# Altium integrated library TI_Logic_Specialty_Logic.IntLib: 2504 symbols (part 69 of 81)
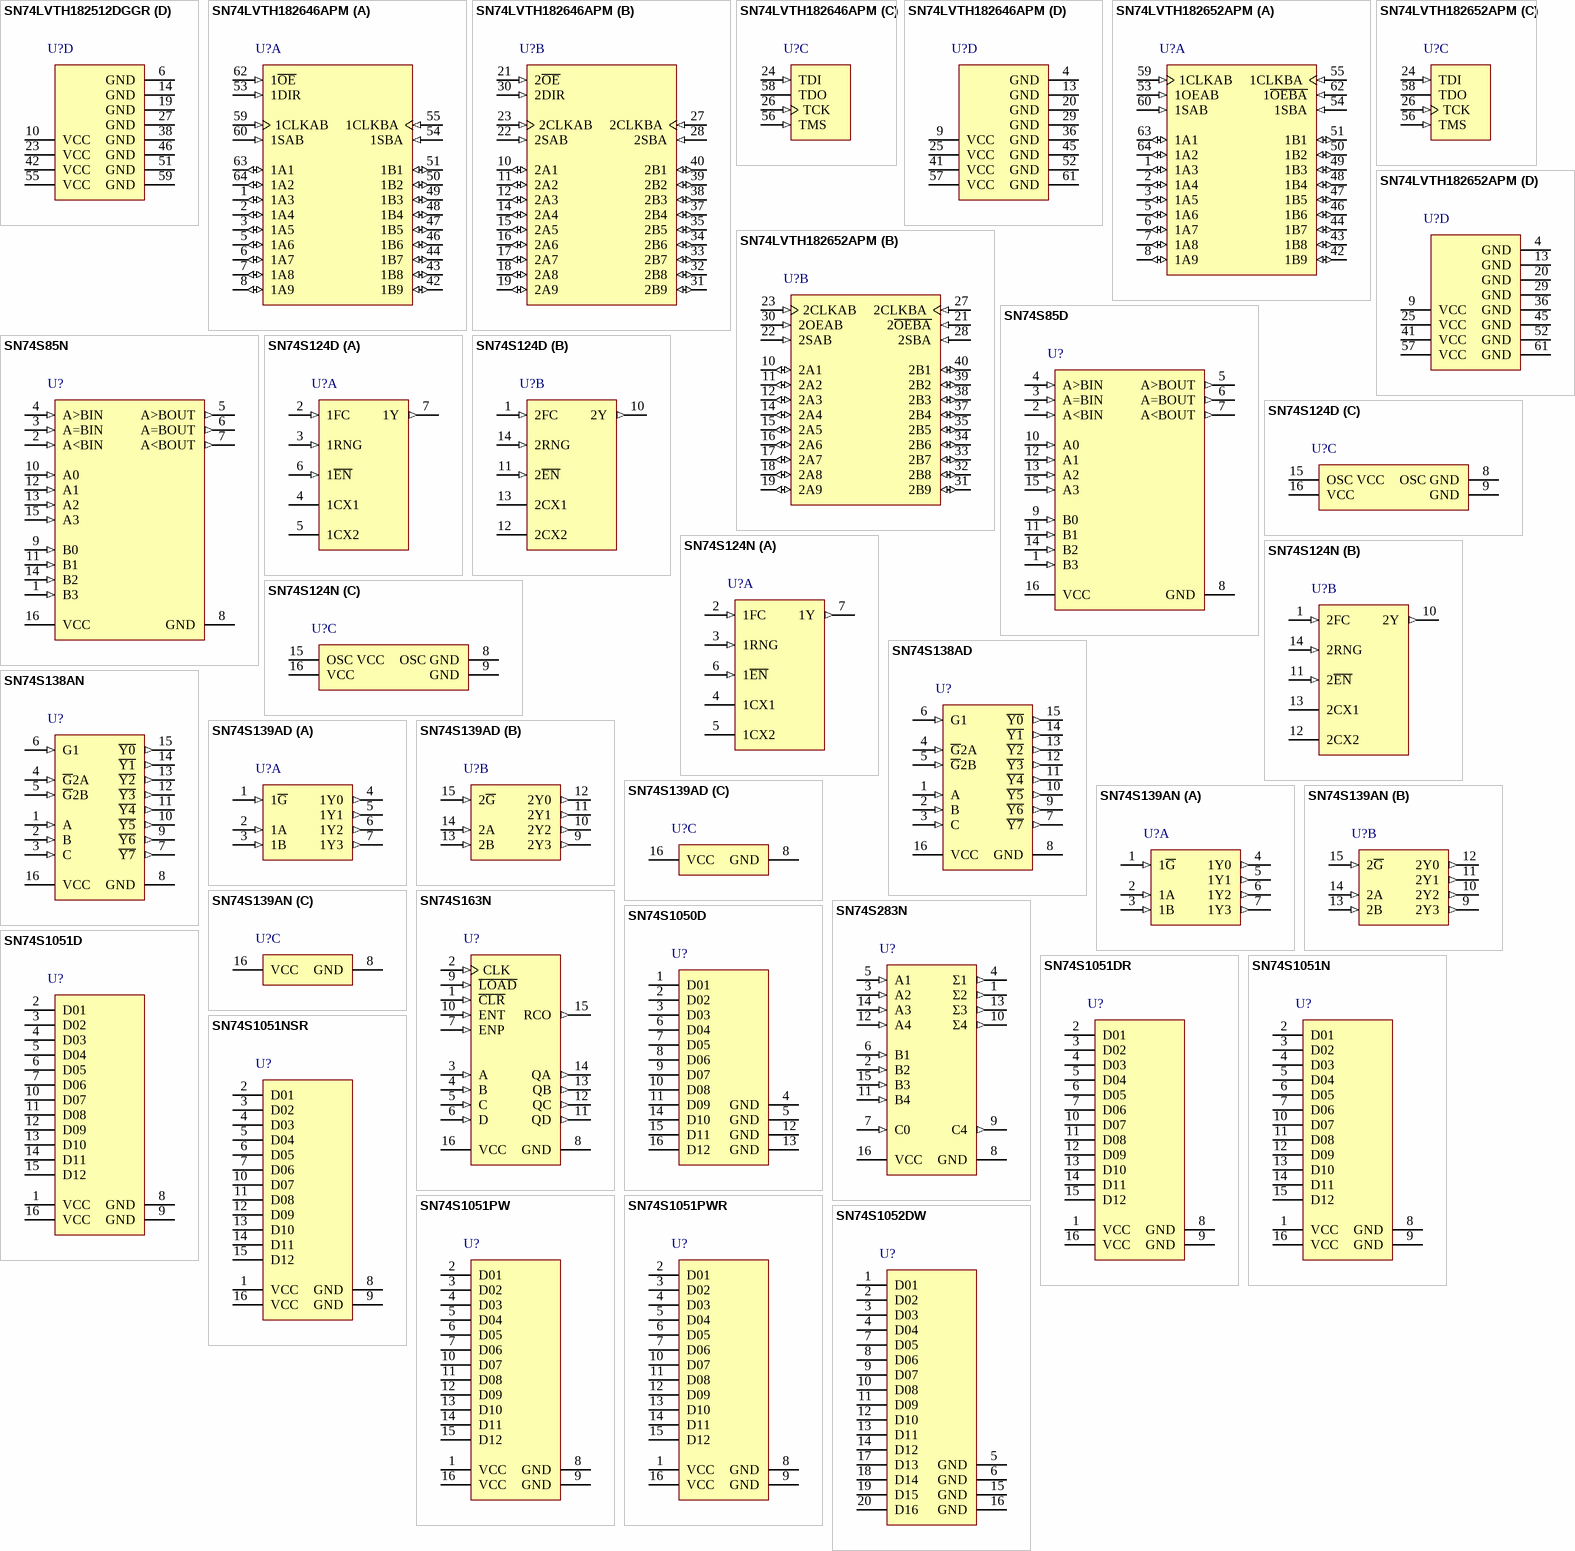
[diagram p172: symbols SN74LVTH182512DGGR to SN74S1052DW]

## SN74S1051PWR
designator U?
12-Bit Schottky Barrier Diode Bus-Termination Array, PW0016A, LARGE T&R; Generic Part Number: SN74S1051; Manufacturer: Texas Instruments; PartNumber: SN74S1051PWR; VCC(Min)(V): 4.75; VCC(Max)(V): 5.25; Output Type: TTL; Vf(Max)(V): 1.3; Bits(#): 12; F @ Nom Voltage(Max)(Mhz): 50; Technology Family: S; Voltage(Nom)(V): 5; tpd @ Nom Voltage(Max)(ns): 16; DatasheetVersion: SDLS018B; PackageReference: PW0016A; Supplier 1: Mouser; Supplier Part Number 1: 595-SN74S1051PWR; Supplier 2: Digi-Key; Supplier Part Number 2: 296-37430-2-ND; Supplier 3: Digi-Key; Supplier Part Number 3: 296-37430-1-ND; Supplier 4: Digi-Key; Supplier Part Number 4: 296-37430-6-ND; Input Type: TTL; Operating Temperature Range(C): 0 to 70; Code_JEDEC: MO-153; ComponentLink1Description: Manufacturer URL; ComponentLink1URL: http://www.ti.com/; ComponentLink2Description: Datasheet; ComponentLink2URL: http://www.ti.com/lit/ds/symlink/sn74s1051.pdf; ComponentLink3Description: Package Specification; ComponentLink3URL: http://www.ti.com/lit/ml/mpds361/mpds361.pdf
footprint PW0016A_N (SOP, 16-Leads, Body 5.1x4.5mm, Pitch 0.65mm, IPC Medium Density)
footprint PW0016A_M (SOP, 16-Leads, Body 5.1x4.5mm, Pitch 0.65mm, IPC Low Density)
footprint PW0016A_L (SOP, 16-Leads, Body 5.1x4.5mm, Pitch 0.65mm, IPC High Density)
pins: 1 VCC, 2 D01, 3 D02, 4 D03, 5 D04, 6 D05, 7 D06, 8 GND, 9 GND, 10 D07, 11 D08, 12 D09, 13 D10, 14 D11, 15 D12, 16 VCC

## SN74S1052DW
designator U?
16-Bit Schottky Barrier Diode Bus-Termination Array, DW0020A, TUBE; Generic Part Number: SN74S1052; Manufacturer: Texas Instruments; PartNumber: SN74S1052DW; VCC(Min)(V): 4.75; VCC(Max)(V): 5.25; Output Type: TTL; Vf(Max)(V): 1.2; Bits(#): 16; F @ Nom Voltage(Max)(Mhz): 50; Technology Family: S; Voltage(Nom)(V): 5; DatasheetVersion: SDLS016A; PackageReference: DW0020A; Supplier 1: Mouser; Supplier Part Number 1: 595-SN74S1052DW; Supplier 2: Digi-Key; Supplier Part Number 2: SN74S1052DW-ND; Input Type: TTL; Operating Temperature Range(C): 0 to 70; tpd @ Nom Voltage(Max)(ns): 16; Code_JEDEC: MS-013; ComponentLink1Description: Manufacturer URL; ComponentLink1URL: http://www.ti.com/; ComponentLink2Description: Datasheet; ComponentLink2URL: http://www.ti.com/lit/ds/symlink/sn74s1052.pdf; ComponentLink3Description: Package Specification; ComponentLink3URL: http://www.ti.com/lit/ml/mpds173a/mpds173a.pdf
footprint DW0020A_N (SOIC, 20-Leads, Body 13x7.6mm, Pitch 1.27mm, IPC Medium Density)
footprint DW0020A_M (SOIC, 20-Leads, Body 13x7.6mm, Pitch 1.27mm, IPC Low Density)
footprint DW0020A_L (SOIC, 20-Leads, Body 13x7.6mm, Pitch 1.27mm, IPC High Density)
pins: 1 D01, 2 D02, 3 D03, 4 D04, 5 GND, 6 GND, 7 D05, 8 D06, 9 D07, 10 D08, 11 D09, 12 D10, 13 D11, 14 D12, 15 GND, 16 GND, 17 D13, 18 D14, 19 D15, 20 D16

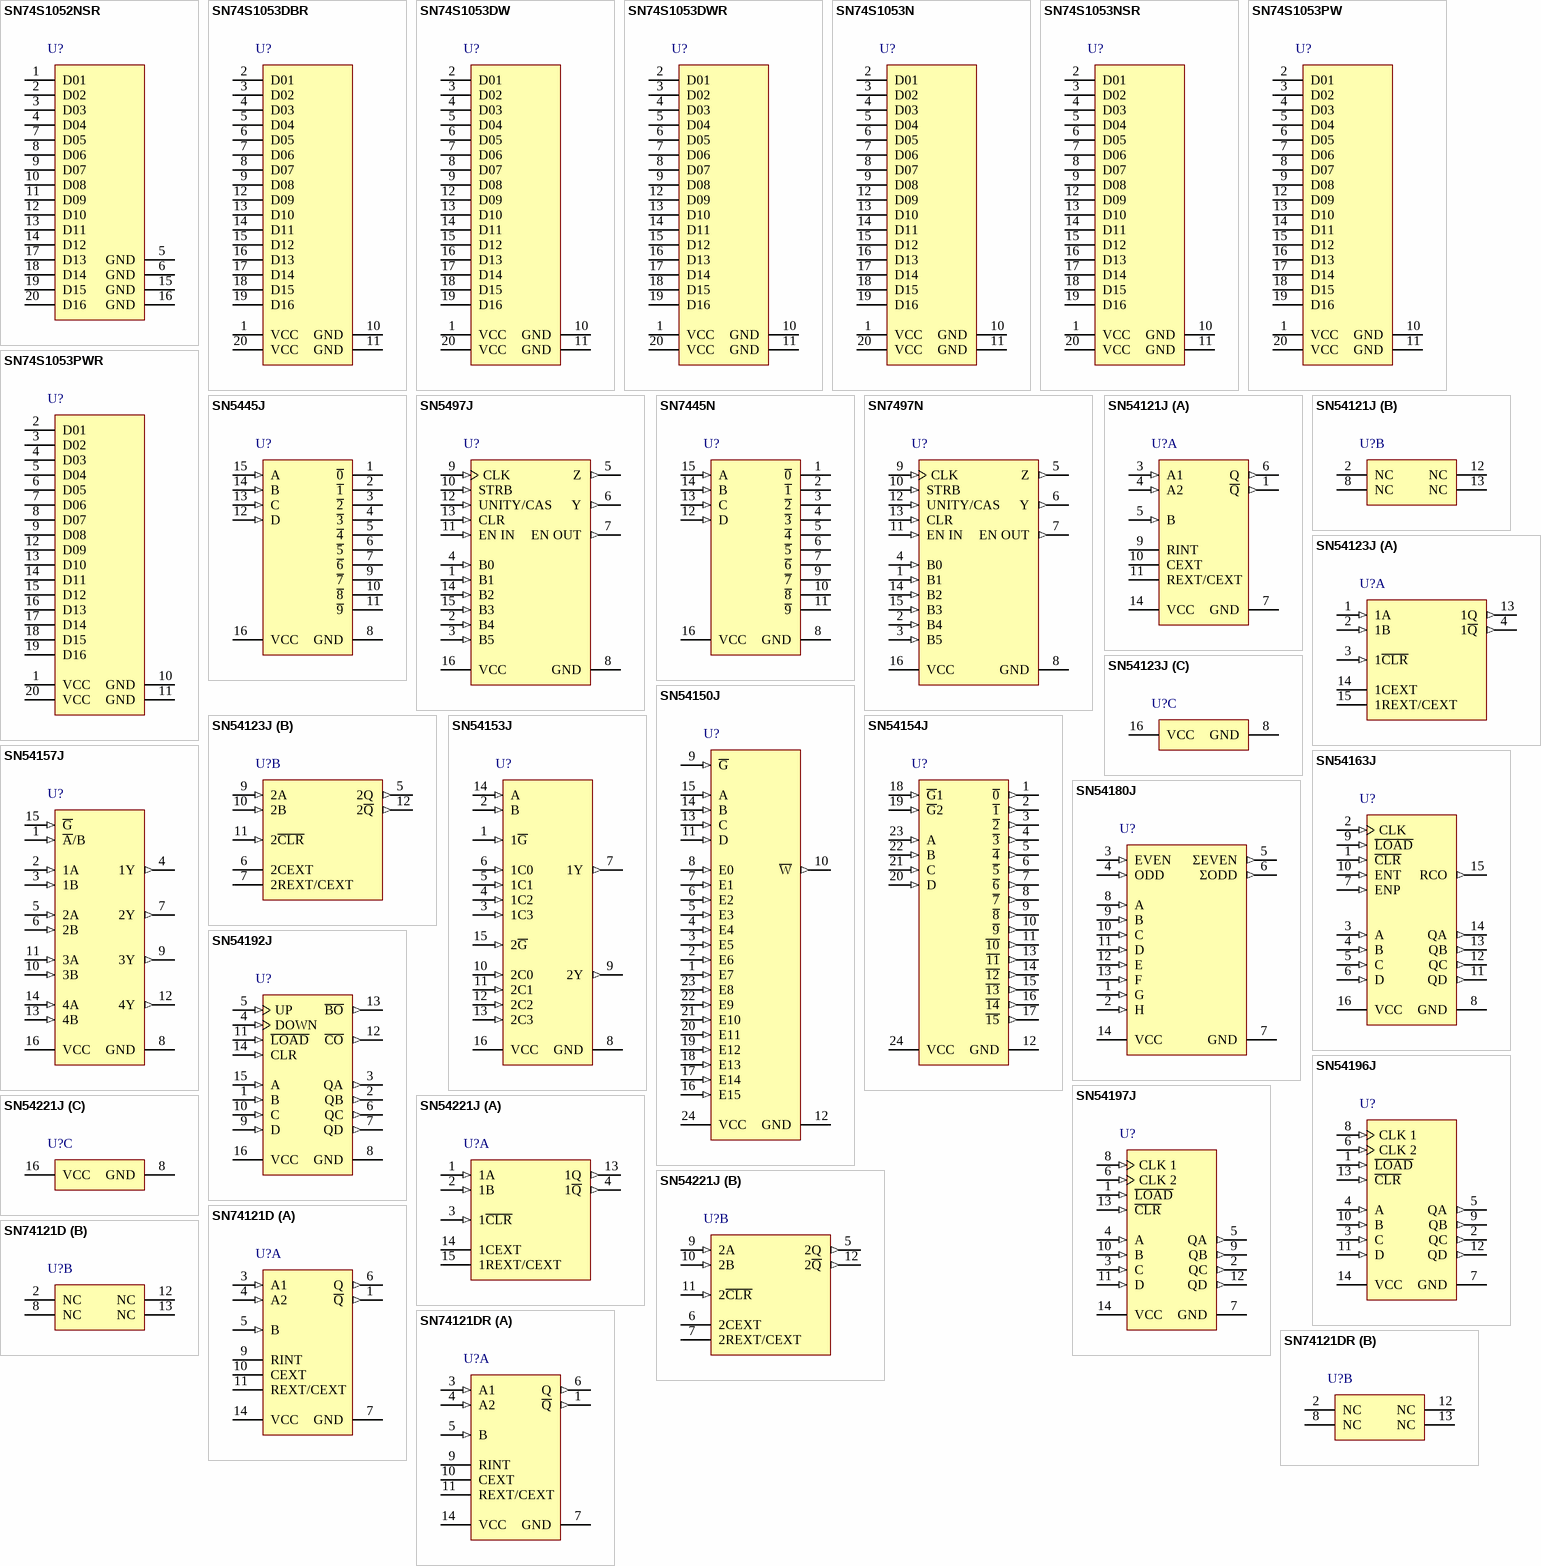
[diagram p85: symbols SN74S1052NSR to SN74121DR]

## SN74S1052NSR
designator U?
16-Bit Schottky Barrier Diode Bus-Termination Array, NS0020A, LARGE T&R; Generic Part Number: SN74S1052; Manufacturer: Texas Instruments; PartNumber: SN74S1052NSR; VCC(Min)(V): 4.75; VCC(Max)(V): 5.25; Output Type: TTL; Vf(Max)(V): 1.2; Bits(#): 16; F @ Nom Voltage(Max)(Mhz): 50; Technology Family: S; Voltage(Nom)(V): 5; DatasheetVersion: SDLS016A; PackageReference: NS0020A; Supplier 1: Mouser; Supplier Part Number 1: 595-SN74S1052NSR; Supplier 2: Digi-Key; Supplier Part Number 2: 296-28731-2-ND; Supplier 3: Digi-Key; Supplier Part Number 3: 296-28731-1-ND; Supplier 4: Digi-Key; Supplier Part Number 4: 296-28731-6-ND; Input Type: TTL; Operating Temperature Range(C): 0 to 70; tpd @ Nom Voltage(Max)(ns): 16; ComponentLink1Description: Manufacturer URL; ComponentLink1URL: http://www.ti.com/; ComponentLink2Description: Datasheet; ComponentLink2URL: http://www.ti.com/lit/ds/symlink/sn74s1052.pdf; ComponentLink3Description: Package Specification; ComponentLink3URL: http://www.ti.com/lit/ml/msop002a/msop002a.pdf
footprint NS0020A_N (SOIC,20-Leads,Body 12.9x5.6mm,Pitch 1.27mm,IPC Medium Density)
footprint NS0020A_M (SOIC,20-Leads,Body 12.9x5.6mm,Pitch 1.27mm,IPC Low Density)
footprint NS0020A_L (SOIC,20-Leads,Body 12.9x5.6mm,Pitch 1.27mm,IPC High Density)
pins: 1 D01, 2 D02, 3 D03, 4 D04, 5 GND, 6 GND, 7 D05, 8 D06, 9 D07, 10 D08, 11 D09, 12 D10, 13 D11, 14 D12, 15 GND, 16 GND, 17 D13, 18 D14, 19 D15, 20 D16

## SN74S1053DBR
designator U?
16-Bit Schottky Barrier Diode Bus-Termination Array, DB0020A, LARGE T&R; Generic Part Number: SN74S1053; Manufacturer: Texas Instruments; PartNumber: SN74S1053DBR; VCC(Min)(V): 4.75; VCC(Max)(V): 5.25; Output Type: TTL; Vf(Max)(V): 1.3; Bits(#): 16; F @ Nom Voltage(Max)(Mhz): 50; Technology Family: S; Voltage(Nom)(V): 5; DatasheetVersion: SDLS017A; PackageReference: DB0020A; Supplier 1: Mouser; Supplier Part Number 1: 595-SN74S1053DBR; Supplier 2: Digi-Key; Supplier Part Number 2: 296-29174-2-ND; Supplier 3: Digi-Key; Supplier Part Number 3: 296-29174-1-ND; Supplier 4: Digi-Key; Supplier Part Number 4: 296-29174-6-ND; Input Type: TTL; Operating Temperature Range(C): 0 to 70; tpd @ Nom Voltage(Max)(ns): 16; Code_JEDEC: MO-150; ComponentLink1Description: Manufacturer URL; ComponentLink1URL: http://www.ti.com/; ComponentLink2Description: Datasheet; ComponentLink2URL: http://www.ti.com/lit/ds/symlink/sn74s1053.pdf; ComponentLink3Description: Package Specification; ComponentLink3URL: http://www.ti.com/lit/ml/mpds508/mpds508.pdf
footprint DB0020A_N (SOP, 20-Leads, Body 5.6x7.5mm, Pitch 0.65mm, IPC Medium Density)
footprint DB0020A_M (SOP, 20-Leads, Body 5.6x7.5mm, Pitch 0.65mm, IPC Low Density)
footprint DB0020A_L (SOP, 20-Leads, Body 5.6x7.5mm, Pitch 0.65mm, IPC High Density)
pins: 1 VCC (power), 2 D01, 3 D02, 4 D03, 5 D04, 6 D05, 7 D06, 8 D07, 9 D08, 10 GND (power), 11 GND (power), 12 D09, 13 D10, 14 D11, 15 D12, 16 D13, 17 D14, 18 D15, 19 D16, 20 VCC (power)

## SN74S1053DW
designator U?
16-Bit Schottky Barrier Diode Bus-Termination Array, DW0020A, TUBE; Generic Part Number: SN74S1053; Manufacturer: Texas Instruments; PartNumber: SN74S1053DW; VCC(Min)(V): 4.75; VCC(Max)(V): 5.25; Output Type: TTL; Vf(Max)(V): 1.3; Bits(#): 16; F @ Nom Voltage(Max)(Mhz): 50; Technology Family: S; Voltage(Nom)(V): 5; DatasheetVersion: SDLS017A; PackageReference: DW0020A; Supplier 1: Mouser; Supplier Part Number 1: 595-SN74S1053DW; Supplier 2: Digi-Key; Supplier Part Number 2: 296-1726-5-ND; Input Type: TTL; Operating Temperature Range(C): 0 to 70; tpd @ Nom Voltage(Max)(ns): 16; Code_JEDEC: MS-013; ComponentLink1Description: Manufacturer URL; ComponentLink1URL: http://www.ti.com/; ComponentLink2Description: Datasheet; ComponentLink2URL: http://www.ti.com/lit/ds/symlink/sn74s1053.pdf; ComponentLink3Description: Package Specification; ComponentLink3URL: http://www.ti.com/lit/ml/mpds173a/mpds173a.pdf
footprint DW0020A_N (SOIC, 20-Leads, Body 13x7.6mm, Pitch 1.27mm, IPC Medium Density)
footprint DW0020A_M (SOIC, 20-Leads, Body 13x7.6mm, Pitch 1.27mm, IPC Low Density)
footprint DW0020A_L (SOIC, 20-Leads, Body 13x7.6mm, Pitch 1.27mm, IPC High Density)
pins: 1 VCC (power), 2 D01, 3 D02, 4 D03, 5 D04, 6 D05, 7 D06, 8 D07, 9 D08, 10 GND (power), 11 GND (power), 12 D09, 13 D10, 14 D11, 15 D12, 16 D13, 17 D14, 18 D15, 19 D16, 20 VCC (power)

## SN74S1053DWR
designator U?
16-Bit Schottky Barrier Diode Bus-Termination Array, DW0020A, LARGE T&R; Generic Part Number: SN74S1053; Manufacturer: Texas Instruments; PartNumber: SN74S1053DWR; VCC(Min)(V): 4.75; VCC(Max)(V): 5.25; Output Type: TTL; Vf(Max)(V): 1.3; Bits(#): 16; F @ Nom Voltage(Max)(Mhz): 50; Technology Family: S; Voltage(Nom)(V): 5; DatasheetVersion: SDLS017A; PackageReference: DW0020A; Supplier 1: Mouser; Supplier Part Number 1: 595-SN74S1053DWR; Supplier 2: Digi-Key; Supplier Part Number 2: 296-14936-2-ND; Supplier 3: Digi-Key; Supplier Part Number 3: 296-14936-1-ND; Supplier 4: Digi-Key; Supplier Part Number 4: 296-14936-6-ND; Input Type: TTL; Operating Temperature Range(C): 0 to 70; tpd @ Nom Voltage(Max)(ns): 16; Code_JEDEC: MS-013; ComponentLink1Description: Manufacturer URL; ComponentLink1URL: http://www.ti.com/; ComponentLink2Description: Datasheet; ComponentLink2URL: http://www.ti.com/lit/ds/symlink/sn74s1053.pdf; ComponentLink3Description: Package Specification; ComponentLink3URL: http://www.ti.com/lit/ml/mpds173a/mpds173a.pdf
footprint DW0020A_N (SOIC, 20-Leads, Body 13x7.6mm, Pitch 1.27mm, IPC Medium Density)
footprint DW0020A_M (SOIC, 20-Leads, Body 13x7.6mm, Pitch 1.27mm, IPC Low Density)
footprint DW0020A_L (SOIC, 20-Leads, Body 13x7.6mm, Pitch 1.27mm, IPC High Density)
pins: 1 VCC (power), 2 D01, 3 D02, 4 D03, 5 D04, 6 D05, 7 D06, 8 D07, 9 D08, 10 GND (power), 11 GND (power), 12 D09, 13 D10, 14 D11, 15 D12, 16 D13, 17 D14, 18 D15, 19 D16, 20 VCC (power)

## SN74S1053N
designator U?
16-Bit Schottky Barrier Diode Bus-Termination Array, N0020A, TUBE; Generic Part Number: SN74S1053; Manufacturer: Texas Instruments; PartNumber: SN74S1053N; VCC(Min)(V): 4.75; VCC(Max)(V): 5.25; Output Type: TTL; Vf(Max)(V): 1.3; Bits(#): 16; F @ Nom Voltage(Max)(Mhz): 50; Technology Family: S; Voltage(Nom)(V): 5; DatasheetVersion: SDLS017A; PackageReference: N0020A; Supplier 1: Mouser; Supplier Part Number 1: 595-SN74S1053N; Supplier 2: Digi-Key; Supplier Part Number 2: 296-1727-5-ND; Input Type: TTL; Operating Temperature Range(C): 0 to 70; tpd @ Nom Voltage(Max)(ns): 16; Code_JEDEC: MS-001; ComponentLink1Description: Manufacturer URL; ComponentLink1URL: http://www.ti.com/; ComponentLink2Description: Datasheet; ComponentLink2URL: http://www.ti.com/lit/ds/symlink/sn74s1053.pdf; ComponentLink3Description: Package Specification; ComponentLink3URL: http://www.ti.com/lit/ml/mpdi002c/mpdi002c.pdf
footprint N0020A (DIP, 20-Leads, Body 26.9x6.6mm, Pitch 2.54mm)
pins: 1 VCC (power), 2 D01, 3 D02, 4 D03, 5 D04, 6 D05, 7 D06, 8 D07, 9 D08, 10 GND (power), 11 GND (power), 12 D09, 13 D10, 14 D11, 15 D12, 16 D13, 17 D14, 18 D15, 19 D16, 20 VCC (power)

## SN74S1053NSR
designator U?
16-Bit Schottky Barrier Diode Bus-Termination Array, NS0020A, LARGE T&R; Generic Part Number: SN74S1053; Manufacturer: Texas Instruments; PartNumber: SN74S1053NSR; VCC(Min)(V): 4.75; VCC(Max)(V): 5.25; Output Type: TTL; Vf(Max)(V): 1.3; Bits(#): 16; F @ Nom Voltage(Max)(Mhz): 50; Technology Family: S; Voltage(Nom)(V): 5; DatasheetVersion: SDLS017A; PackageReference: NS0020A; Supplier 1: Mouser; Supplier Part Number 1: 595-SN74S1053NSR; Supplier 2: Digi-Key; Supplier Part Number 2: 296-38256-2-ND; Supplier 3: Digi-Key; Supplier Part Number 3: 296-38256-1-ND; Supplier 4: Digi-Key; Supplier Part Number 4: 296-38256-6-ND; Input Type: TTL; Operating Temperature Range(C): 0 to 70; tpd @ Nom Voltage(Max)(ns): 16; ComponentLink1Description: Manufacturer URL; ComponentLink1URL: http://www.ti.com/; ComponentLink2Description: Datasheet; ComponentLink2URL: http://www.ti.com/lit/ds/symlink/sn74s1053.pdf; ComponentLink3Description: Package Specification; ComponentLink3URL: http://www.ti.com/lit/ml/msop002a/msop002a.pdf
footprint NS0020A_N (SOIC,20-Leads,Body 12.9x5.6mm,Pitch 1.27mm,IPC Medium Density)
footprint NS0020A_M (SOIC,20-Leads,Body 12.9x5.6mm,Pitch 1.27mm,IPC Low Density)
footprint NS0020A_L (SOIC,20-Leads,Body 12.9x5.6mm,Pitch 1.27mm,IPC High Density)
pins: 1 VCC (power), 2 D01, 3 D02, 4 D03, 5 D04, 6 D05, 7 D06, 8 D07, 9 D08, 10 GND (power), 11 GND (power), 12 D09, 13 D10, 14 D11, 15 D12, 16 D13, 17 D14, 18 D15, 19 D16, 20 VCC (power)

## SN74S1053PW
designator U?
16-Bit Schottky Barrier Diode Bus-Termination Array, PW0020A, TUBE; Generic Part Number: SN74S1053; Manufacturer: Texas Instruments; PartNumber: SN74S1053PW; VCC(Min)(V): 4.75; VCC(Max)(V): 5.25; Output Type: TTL; Vf(Max)(V): 1.3; Bits(#): 16; F @ Nom Voltage(Max)(Mhz): 50; Technology Family: S; Voltage(Nom)(V): 5; DatasheetVersion: SDLS017A; PackageReference: PW0020A; Supplier 1: Mouser; Supplier Part Number 1: 595-SN74S1053PW; Supplier 2: Digi-Key; Supplier Part Number 2: 296-41912-5-ND; Input Type: TTL; Operating Temperature Range(C): 0 to 70; tpd @ Nom Voltage(Max)(ns): 16; Code_JEDEC: MO-153; ComponentLink1Description: Manufacturer URL; ComponentLink1URL: http://www.ti.com/; ComponentLink2Description: Datasheet; ComponentLink2URL: http://www.ti.com/lit/ds/symlink/sn74s1053.pdf; ComponentLink3Description: Package Specification; ComponentLink3URL: http://www.ti.com/lit/ml/mpds362/mpds362.pdf
footprint PW0020A_N (SOP, 20-Leads, Body 6.6x4.5mm, Pitch 0.65mm, IPC Medium Density)
footprint PW0020A_M (SOP, 20-Leads, Body 6.6x4.5mm, Pitch 0.65mm, IPC Low Density)
footprint PW0020A_L (SOP, 20-Leads, Body 6.6x4.5mm, Pitch 0.65mm, IPC High Density)
pins: 1 VCC (power), 2 D01, 3 D02, 4 D03, 5 D04, 6 D05, 7 D06, 8 D07, 9 D08, 10 GND (power), 11 GND (power), 12 D09, 13 D10, 14 D11, 15 D12, 16 D13, 17 D14, 18 D15, 19 D16, 20 VCC (power)

## SN74S1053PWR
designator U?
16-Bit Schottky Barrier Diode Bus-Termination Array, PW0020A, LARGE T&R; Generic Part Number: SN74S1053; Manufacturer: Texas Instruments; PartNumber: SN74S1053PWR; VCC(Min)(V): 4.75; VCC(Max)(V): 5.25; Output Type: TTL; Vf(Max)(V): 1.3; Bits(#): 16; F @ Nom Voltage(Max)(Mhz): 50; Technology Family: S; Voltage(Nom)(V): 5; DatasheetVersion: SDLS017A; PackageReference: PW0020A; Supplier 1: Mouser; Supplier Part Number 1: 595-SN74S1053PWR; Supplier 2: Digi-Key; Supplier Part Number 2: 296-13703-2-ND; Supplier 3: Digi-Key; Supplier Part Number 3: 296-13703-1-ND; Supplier 4: Digi-Key; Supplier Part Number 4: 296-13703-6-ND; Input Type: TTL; Operating Temperature Range(C): 0 to 70; tpd @ Nom Voltage(Max)(ns): 16; Code_JEDEC: MO-153; ComponentLink1Description: Manufacturer URL; ComponentLink1URL: http://www.ti.com/; ComponentLink2Description: Datasheet; ComponentLink2URL: http://www.ti.com/lit/ds/symlink/sn74s1053.pdf; ComponentLink3Description: Package Specification; ComponentLink3URL: http://www.ti.com/lit/ml/mpds362/mpds362.pdf
footprint PW0020A_N (SOP, 20-Leads, Body 6.6x4.5mm, Pitch 0.65mm, IPC Medium Density)
footprint PW0020A_M (SOP, 20-Leads, Body 6.6x4.5mm, Pitch 0.65mm, IPC Low Density)
footprint PW0020A_L (SOP, 20-Leads, Body 6.6x4.5mm, Pitch 0.65mm, IPC High Density)
pins: 1 VCC (power), 2 D01, 3 D02, 4 D03, 5 D04, 6 D05, 7 D06, 8 D07, 9 D08, 10 GND (power), 11 GND (power), 12 D09, 13 D10, 14 D11, 15 D12, 16 D13, 17 D14, 18 D15, 19 D16, 20 VCC (power)

## SN5445J
designator U?
BCD-to-Decimal Decoders/Drivers, J0016A, TUBE; Generic Part Number: SN5445; Manufacturer: Texas Instruments; PartNumber: SN5445J; VCC(Min)(V): 4.5; VCC(Max)(V): 5.5; Rating: Military; Technology Family: TTL; Schmitt Trigger: No; DatasheetVersion: SDLS110; PackageReference: J0016A; Operating Temperature Range(C): -55 to 125; ComponentLink1Description: Manufacturer URL; ComponentLink1URL: http://www.ti.com/; ComponentLink2Description: Datasheet; ComponentLink2URL: http://www.ti.com/lit/ds/symlink/sn5445.pdf; ComponentLink3Description: Package Specification; ComponentLink3URL: http://www.ti.com/lit/ml/mcer002d/mcer002d.pdf
footprint J0016A (DIP, 16-Leads, Body 21.35x7.2mm, Pitch 2.54mm)
pins: 1 ~{0} (oc), 2 ~{1} (oc), 3 ~{2} (oc), 4 ~{3} (oc), 5 ~{4} (oc), 6 ~{5} (oc), 7 ~{6} (oc), 8 GND (power), 9 ~{7} (oc), 10 ~{8} (oc), 11 ~{9} (oc), 12 D (in), 13 C (in), 14 B (in), 15 A (in), 16 VCC (power)

## SN5497J
designator U?
Synchronous 6-Bit Binary Rate Multipliers, J0016A, TUBE; Generic Part Number: SN5497; Manufacturer: Texas Instruments; PartNumber: SN5497J; VCC(Min)(V): 4.75; VCC(Max)(V): 5.25; Output Type: TTL; ICC @ Nom Voltage(Max)(mA): 120; Bits(#): 6; F @ Nom Voltage(Max)(Mhz): 75; Rating: Military; Voltage(Nom)(V): 5; Output Drive (IOL/IOH)(Max)(mA): 16/-0.4; tpd @ Nom Voltage(Max)(ns): 39; DatasheetVersion: SDLS130; PackageReference: J0016A; Input Type: TTL; Operating Temperature Range(C): -55 to 125; Technology Family: TTL; ComponentLink1Description: Manufacturer URL; ComponentLink1URL: http://www.ti.com/; ComponentLink2Description: Datasheet; ComponentLink2URL: http://www.ti.com/lit/ds/symlink/sn5497.pdf
footprint J0016A (DIP, 16-Leads, Body 21.35x7.2mm, Pitch 2.54mm)
pins: 1 B1 (in), 2 B4 (in), 3 B5 (in), 4 B0 (in), 5 Z (out), 6 Y (out), 7 EN OUT (out), 8 GND (power), 9 CLK (in), 10 STRB (in), 11 EN IN (in), 12 UNITY/CAS (in), 13 CLR (in), 14 B2 (in), 15 B3 (in), 16 VCC (power)

## SN7445N
designator U?
BCD-To-Decimal Decoders/Drivers, N0016A, TUBE; Generic Part Number: SN7445; Manufacturer: Texas Instruments; PartNumber: SN7445N; VCC(Min)(V): 4.75; VCC(Max)(V): 5.25; Output Type: TTL; Function: Decoder/Demultiplexer; ICC @ Nom Voltage(Max)(mA): 70; Bits(#): 10; F @ Nom Voltage(Max)(Mhz): 75; Configuration: 4：10; Channels(#): 1; Rating: Catalog; Voltage(Nom)(V): 5; Schmitt Trigger: No; Output Drive (IOL/IOH)(Max)(mA): 80/-20; tpd @ Nom Voltage(Max)(ns): 50; DatasheetVersion: SDLS110; PackageReference: N0016A; Supplier 1: Mouser; Supplier Part Number 1: 595-SN7445N; Supplier 2: Digi-Key; Supplier Part Number 2: 296-8761-5-ND; Input Type: TTL; Operating Temperature Range(C): 0 to 70; Type: Standard; Technology Family: TTL; Code_JEDEC: MS-001; ComponentLink1Description: Manufacturer URL; ComponentLink1URL: http://www.ti.com/; ComponentLink2Description: Datasheet; ComponentLink2URL: http://www.ti.com/lit/ds/symlink/sn7445.pdf; ComponentLink3Description: Package Specification; ComponentLink3URL: http://www.ti.com/lit/ml/mpdi002c/mpdi002c.pdf
footprint N0016A (DIP, 16-Leads, Body 19.7x6.6mm, Pitch 2.54mm)
pins: 1 ~{0} (oc), 2 ~{1} (oc), 3 ~{2} (oc), 4 ~{3} (oc), 5 ~{4} (oc), 6 ~{5} (oc), 7 ~{6} (oc), 8 GND (power), 9 ~{7} (oc), 10 ~{8} (oc), 11 ~{9} (oc), 12 D (in), 13 C (in), 14 B (in), 15 A (in), 16 VCC (power)

## SN7497N
designator U?
Synchronous 6-bit binary rate multiplier, N0016A, TUBE; Generic Part Number: SN7497; Manufacturer: Texas Instruments; PartNumber: SN7497N; VCC(Min)(V): 4.75; VCC(Max)(V): 5.25; Output Type: TTL; ICC @ Nom Voltage(Max)(mA): 120; Bits(#): 6; F @ Nom Voltage(Max)(Mhz): 75; Rating: Catalog; Voltage(Nom)(V): 5; Schmitt Trigger: No; Output Drive (IOL/IOH)(Max)(mA): 16/-0.4; tpd @ Nom Voltage(Max)(ns): 39; DatasheetVersion: SDLS130; PackageReference: N0016A; Supplier 1: Mouser; Supplier Part Number 1: 595-SN7497N; Supplier 2: Digi-Key; Supplier Part Number 2: 296-33613-5-ND; Input Type: TTL; Operating Temperature Range(C): 0 to 70; Technology Family: TTL; ComponentLink1Description: Manufacturer URL; ComponentLink1URL: http://www.ti.com/; ComponentLink2Description: Datasheet; ComponentLink2URL: http://www.ti.com/lit/ds/symlink/sn7497.pdf
footprint N0016A (DIP, 16-Leads, Body 19.7x6.6mm, Pitch 2.54mm)
pins: 1 B1 (in), 2 B4 (in), 3 B5 (in), 4 B0 (in), 5 Z (out), 6 Y (out), 7 EN OUT (out), 8 GND (power), 9 CLK (in), 10 STRB (in), 11 EN IN (in), 12 UNITY/CAS (in), 13 CLR (in), 14 B2 (in), 15 B3 (in), 16 VCC (power)

## SN54121J
designator U?
Monostable Multivibrators With Schmitt-trigger Inputs, J0014A, TUBE; Generic Part Number: SN54121; Manufacturer: Texas Instruments; PartNumber: SN54121J; VCC(Min)(V): 4.75; VCC(Max)(V): 5.25; Output Type: TTL; ICC @ Nom Voltage(Max)(mA): 40; Bits(#): 1; Rating: Military; Output Drive (IOL/IOH)(Max)(mA): 16/-0.4; tpd @ Nom Voltage(Max)(ns): 80; DatasheetVersion: SDLS042A; PackageReference: J0014A; Input Type: TTL; Operating Temperature Range(C): -55 to 125; Technology Family: TTL; ComponentLink1Description: Manufacturer URL; ComponentLink1URL: http://www.ti.com/; ComponentLink2Description: Datasheet; ComponentLink2URL: http://www.ti.com/lit/ds/symlink/sn54121.pdf; ComponentLink3Description: Package Specification; ComponentLink3URL: http://www.ti.com/lit/ml/mcer002d/mcer002d.pdf
footprint J0014A (DIP, 14-Leads, Body 19.95x7.2mm, Pitch 2.54mm)
part A pins: 1 ~{Q} (out), 3 A1 (in), 4 A2 (in), 5 B (in), 6 Q (out), 7 GND (power), 9 RINT, 10 CEXT, 11 REXT/CEXT, 14 VCC (power)
part B pins: 2 NC, 8 NC, 12 NC, 13 NC

## SN54123J
designator U?
Retriggerable Monostable Multivibrators, J0016A, TUBE; Generic Part Number: SN54123; Manufacturer: Texas Instruments; PartNumber: SN54123J; VCC(Min)(V): 4.75; VCC(Max)(V): 5.25; Output Type: TTL; ICC @ Nom Voltage(Max)(mA): 66; Bits(#): 2; Rating: Military; Output Drive (IOL/IOH)(Max)(mA): 16/-0.8; tpd @ Nom Voltage(Max)(ns): 40; DatasheetVersion: SDLS043; PackageReference: J0016A; Input Type: TTL; Operating Temperature Range(C): -55 to 125; Technology Family: TTL; ComponentLink1Description: Manufacturer URL; ComponentLink1URL: http://www.ti.com/; ComponentLink2Description: Datasheet; ComponentLink2URL: http://www.ti.com/lit/ds/symlink/sn54123.pdf; ComponentLink3Description: Package Specification; ComponentLink3URL: http://www.ti.com/lit/ml/mcer002d/mcer002d.pdf
footprint J0016A (DIP, 16-Leads, Body 21.35x7.2mm, Pitch 2.54mm)
part A pins: 1 1A (in), 2 1B (in), 3 1~{CLR} (in), 4 1~{Q} (out), 13 1Q (out), 14 1CEXT, 15 1REXT/CEXT
part B pins: 5 2Q (out), 6 2CEXT, 7 2REXT/CEXT, 9 2A (in), 10 2B (in), 11 2~{CLR} (in), 12 2~{Q} (out)
part C pins: 8 GND (power), 16 VCC (power)

## SN54150J
designator U?
Data Selectors/Multiplexers, J0024A, TUBE; Generic Part Number: SN54150; Manufacturer: Texas Instruments; PartNumber: SN54150J; VCC(Min)(V): 4.5; VCC(Max)(V): 5.5; Rating: Military; Technology Family: TTL; Schmitt Trigger: No; DatasheetVersion: SDLS054; PackageReference: J0024A; Supplier 1: Digi-Key; Supplier Part Number 1: SN54150J-ND; Operating Temperature Range(C): -55 to 125; ComponentLink1Description: Manufacturer URL; ComponentLink1URL: http://www.ti.com/; ComponentLink2Description: Datasheet; ComponentLink2URL: http://www.ti.com/lit/ds/symlink/sn54150.pdf; ComponentLink3Description: Package Specification; ComponentLink3URL: http://www.ti.com/lit/ml/mcer002d/mcer002d.pdf
footprint J0024A (DIP, 24-Leads, Body 32.15x14.85mm, Pitch 2.54mm)
pins: 1 E7 (in), 2 E6 (in), 3 E5 (in), 4 E4 (in), 5 E3 (in), 6 E2 (in), 7 E1 (in), 8 E0 (in), 9 ~{G} (in), 10 ~{W} (out), 11 D (in), 12 GND (power), 13 C (in), 14 B (in), 15 A (in), 16 E15 (in), 17 E14 (in), 18 E13 (in), 19 E12 (in), 20 E11 (in), 21 E10 (in), 22 E9 (in), 23 E8 (in), 24 VCC (power)

## SN54153J
designator U?
Dual 4-Line To 1-Line Data Selectors/Multiplexers, J0016A, TUBE; Generic Part Number: SN54153; Manufacturer: Texas Instruments; PartNumber: SN54153J; VCC(Min)(V): 4.5; VCC(Max)(V): 5.5; Rating: Military; Technology Family: TTL; Schmitt Trigger: No; DatasheetVersion: SDLS055A; PackageReference: J0016A; Operating Temperature Range(C): -55 to 125; ComponentLink1Description: Manufacturer URL; ComponentLink1URL: http://www.ti.com/; ComponentLink2Description: Datasheet; ComponentLink2URL: http://www.ti.com/lit/ds/symlink/sn54153.pdf; ComponentLink3Description: Package Specification; ComponentLink3URL: http://www.ti.com/lit/ml/mcer002d/mcer002d.pdf
footprint J0016A (DIP, 16-Leads, Body 21.35x7.2mm, Pitch 2.54mm)
pins: 1 1~{G} (in), 2 B (in), 3 1C3 (in), 4 1C2 (in), 5 1C1 (in), 6 1C0 (in), 7 1Y (out), 8 GND (power), 9 2Y (out), 10 2C0 (in), 11 2C1 (in), 12 2C2 (in), 13 2C3 (in), 14 A (in), 15 2~{G} (in), 16 VCC (power)

## SN54154J
designator U?
4-Line To 16-Line Decoders/Demultiplexers, J0024A, TUBE; Generic Part Number: SN54154; Manufacturer: Texas Instruments; PartNumber: SN54154J; VCC(Min)(V): 4.5; VCC(Max)(V): 5.5; Rating: Military; Technology Family: TTL; Schmitt Trigger: No; DatasheetVersion: SDLS056; PackageReference: J0024A; Operating Temperature Range(C): -55 to 125; ComponentLink1Description: Manufacturer URL; ComponentLink1URL: http://www.ti.com/; ComponentLink2Description: Datasheet; ComponentLink2URL: http://www.ti.com/lit/ds/symlink/sn54154.pdf; ComponentLink3Description: Package Specification; ComponentLink3URL: http://www.ti.com/lit/ml/mcer002d/mcer002d.pdf
footprint J0024A (DIP, 24-Leads, Body 32.15x14.85mm, Pitch 2.54mm)
pins: 1 ~{0} (out), 2 ~{1} (out), 3 ~{2} (out), 4 ~{3} (out), 5 ~{4} (out), 6 ~{5} (out), 7 ~{6} (out), 8 ~{7} (out), 9 ~{8} (out), 10 ~{9} (out), 11 ~{10} (out), 12 GND (power), 13 ~{11} (out), 14 ~{12} (out), 15 ~{13} (out), 16 ~{14} (out), 17 ~{15} (out), 18 ~{G}1 (in), 19 ~{G}2 (in), 20 D (in), 21 C (in), 22 B (in), 23 A (in), 24 VCC (power)

## SN54157J
designator U?
Quadruple 2-Line To 1-Line Data Selectors/Multiplexers, J0016A, TUBE; Generic Part Number: SN54157; Manufacturer: Texas Instruments; PartNumber: SN54157J; VCC(Min)(V): 4.5; VCC(Max)(V): 5.5; Rating: Military; Technology Family: TTL; Schmitt Trigger: No; DatasheetVersion: SDLS058; PackageReference: J0016A; Operating Temperature Range(C): -55 to 125; ComponentLink1Description: Manufacturer URL; ComponentLink1URL: http://www.ti.com/; ComponentLink2Description: Datasheet; ComponentLink2URL: http://www.ti.com/lit/ds/symlink/sn54157.pdf; ComponentLink3Description: Package Specification; ComponentLink3URL: http://www.ti.com/lit/ml/mcer002d/mcer002d.pdf
footprint J0016A (DIP, 16-Leads, Body 21.35x7.2mm, Pitch 2.54mm)
pins: 1 ~{A}/B (in), 2 1A (in), 3 1B (in), 4 1Y (out), 5 2A (in), 6 2B (in), 7 2Y (out), 8 GND (power), 9 3Y (out), 10 3B (in), 11 3A (in), 12 4Y (out), 13 4B (in), 14 4A (in), 15 ~{G} (in), 16 VCC (power)

## SN54163J
designator U?
Synchronous 4-Bit Counters, J0016A, TUBE; Generic Part Number: SN54163; Manufacturer: Texas Instruments; PartNumber: SN54163J; Rating: Military; Technology Family: TTL; DatasheetVersion: SDLS060; PackageReference: J0016A; Operating Temperature Range(C): -55 to 125; ComponentLink1Description: Manufacturer URL; ComponentLink1URL: http://www.ti.com/; ComponentLink2Description: Datasheet; ComponentLink2URL: http://www.ti.com/lit/ds/symlink/sn54163.pdf; ComponentLink3Description: Package Specification; ComponentLink3URL: http://www.ti.com/lit/ml/mcer002d/mcer002d.pdf
footprint J0016A (DIP, 16-Leads, Body 21.35x7.2mm, Pitch 2.54mm)
pins: 1 ~{CLR} (in), 2 CLK (in), 3 A (in), 4 B (in), 5 C (in), 6 D (in), 7 ENP (in), 8 GND (power), 9 ~{LOAD} (in), 10 ENT (in), 11 QD (out), 12 QC (out), 13 QB (out), 14 QA (out), 15 RCO (out), 16 VCC (power)

## SN54180J
designator U?
9-Bit Odd/Even Parity Generators/Checkers, J0014A, TUBE; Generic Part Number: SN54180; Manufacturer: Texas Instruments; PartNumber: SN54180J; Rating: Military; Technology Family: TTL; PackageReference: J0014A; Operating Temperature Range(C): -55 to 125; ComponentLink1Description: Manufacturer URL; ComponentLink1URL: http://www.ti.com/; ComponentLink2Description: Datasheet; ComponentLink2URL: http://www.ti.com/lit/ds/symlink/sn54180.pdf; ComponentLink3Description: Package Specification; ComponentLink3URL: http://www.ti.com/lit/ml/mcer002d/mcer002d.pdf
footprint J0014A (DIP, 14-Leads, Body 19.95x7.2mm, Pitch 2.54mm)
pins: 1 G (in), 2 H (in), 3 EVEN (in), 4 ODD (in), 5 ΣEVEN (out), 6 ΣODD (out), 7 GND (power), 8 A (in), 9 B (in), 10 C (in), 11 D (in), 12 E (in), 13 F (in), 14 VCC (power)

## SN54192J
designator U?
Synchronous 4-Bit Up/Down Counters (Dual Clock With Clear), J0016A, TUBE; Generic Part Number: SN54192; Manufacturer: Texas Instruments; PartNumber: SN54192J; Rating: Military; Technology Family: TTL; DatasheetVersion: SDLS074; PackageReference: J0016A; Operating Temperature Range(C): -55 to 125; ComponentLink1Description: Manufacturer URL; ComponentLink1URL: http://www.ti.com/; ComponentLink2Description: Datasheet; ComponentLink2URL: http://www.ti.com/lit/ds/symlink/sn54192.pdf; ComponentLink3Description: Package Specification; ComponentLink3URL: http://www.ti.com/lit/ml/mcer002d/mcer002d.pdf
footprint J0016A (DIP, 16-Leads, Body 21.35x7.2mm, Pitch 2.54mm)
pins: 1 B (in), 2 QB (out), 3 QA (out), 4 DOWN (in), 5 UP (in), 6 QC (out), 7 QD (out), 8 GND (power), 9 D (in), 10 C (in), 11 ~{LOAD} (in), 12 ~{CO} (out), 13 ~{BO} (out), 14 CLR (in), 15 A (in), 16 VCC (power)

## SN54196J
designator U?
50/30/100-Mhz Presettable Decade OR Binary Counters/Latches, J0014A, TUBE; Generic Part Number: SN54196; Manufacturer: Texas Instruments; PartNumber: SN54196J; Rating: Military; Technology Family: TTL; DatasheetVersion: SDLS077; PackageReference: J0014A; Operating Temperature Range(C): -55 to 125; ComponentLink1Description: Manufacturer URL; ComponentLink1URL: http://www.ti.com/; ComponentLink2Description: Datasheet; ComponentLink2URL: http://www.ti.com/lit/ds/symlink/sn54196.pdf; ComponentLink3Description: Package Specification; ComponentLink3URL: http://www.ti.com/lit/ml/mcer002d/mcer002d.pdf
footprint J0014A (DIP, 14-Leads, Body 19.95x7.2mm, Pitch 2.54mm)
pins: 1 ~{LOAD} (in), 2 QC (out), 3 C (in), 4 A (in), 5 QA (out), 6 CLK 2 (in), 7 GND (power), 8 CLK 1 (in), 9 QB (out), 10 B (in), 11 D (in), 12 QD (out), 13 ~{CLR} (in), 14 VCC (power)

## SN54197J
designator U?
50/30/100-Mhz Presettable Decade OR Binary Counters/Latches, J0014A, TUBE; Generic Part Number: SN54197; Manufacturer: Texas Instruments; PartNumber: SN54197J; Rating: Military; Technology Family: TTL; DatasheetVersion: SDLS077; PackageReference: J0014A; Operating Temperature Range(C): -55 to 125; ComponentLink1Description: Manufacturer URL; ComponentLink1URL: http://www.ti.com/; ComponentLink2Description: Datasheet; ComponentLink2URL: http://www.ti.com/lit/ds/symlink/sn54197.pdf; ComponentLink3Description: Package Specification; ComponentLink3URL: http://www.ti.com/lit/ml/mcer002d/mcer002d.pdf
footprint J0014A (DIP, 14-Leads, Body 19.95x7.2mm, Pitch 2.54mm)
pins: 1 ~{LOAD} (in), 2 QC (out), 3 C (in), 4 A (in), 5 QA (out), 6 CLK 2 (in), 7 GND (power), 8 CLK 1 (in), 9 QB (out), 10 B (in), 11 D (in), 12 QD (out), 13 ~{CLR} (in), 14 VCC (power)

## SN54221J
designator U?
Dual Monostable Multivibrators With Schmitt-trigger Inputs, J0016A, TUBE; Generic Part Number: SN54221; Manufacturer: Texas Instruments; PartNumber: SN54221J; VCC(Min)(V): 4.75; VCC(Max)(V): 5.25; Output Type: TTL; ICC @ Nom Voltage(Max)(mA): 80; Bits(#): 2; Rating: Military; Output Drive (IOL/IOH)(Max)(mA): 16/-0.8; DatasheetVersion: SDLS213B; PackageReference: J0016A; Input Type: TTL; Operating Temperature Range(C): -55 to 125; Technology Family: TTL; tpd @ Nom Voltage(Max)(ns): 80; ComponentLink1Description: Manufacturer URL; ComponentLink1URL: http://www.ti.com/; ComponentLink2Description: Datasheet; ComponentLink2URL: http://www.ti.com/lit/ds/symlink/sn54221.pdf; ComponentLink3Description: Package Specification; ComponentLink3URL: http://www.ti.com/lit/ml/mcer002d/mcer002d.pdf
footprint J0016A (DIP, 16-Leads, Body 21.35x7.2mm, Pitch 2.54mm)
part A pins: 1 1A (in), 2 1B (in), 3 1~{CLR} (in), 4 1~{Q} (out), 13 1Q (out), 14 1CEXT, 15 1REXT/CEXT
part B pins: 5 2Q (out), 6 2CEXT, 7 2REXT/CEXT, 9 2A (in), 10 2B (in), 11 2~{CLR} (in), 12 2~{Q} (out)
part C pins: 8 GND (power), 16 VCC (power)

## SN74121D
designator U?
Monostable multivibrator with Schmitt-trigger inputs, D0014A, TUBE; Generic Part Number: SN74121; Manufacturer: Texas Instruments; PartNumber: SN74121D; VCC(Min)(V): 4.75; VCC(Max)(V): 5.25; Output Type: TTL; ICC @ Nom Voltage(Max)(mA): 40; Bits(#): 1; F @ Nom Voltage(Max)(Mhz): 75; Rating: Catalog; Voltage(Nom)(V): 5; Schmitt Trigger: Yes; Output Drive (IOL/IOH)(Max)(mA): 16/-0.4; tpd @ Nom Voltage(Max)(ns): 80; DatasheetVersion: SDLS042A; PackageReference: D0014A; Supplier 1: Mouser; Supplier Part Number 1: 595-SN74121D; Supplier 2: Digi-Key; Supplier Part Number 2: 296-33599-5-ND; Input Type: TTL; Operating Temperature Range(C): 0 to 70; Technology Family: TTL; Code_JEDEC: MS-012; ComponentLink1Description: Manufacturer URL; ComponentLink1URL: http://www.ti.com/; ComponentLink2Description: Datasheet; ComponentLink2URL: http://www.ti.com/lit/ds/symlink/sn74121.pdf; ComponentLink3Description: Package Specification; ComponentLink3URL: http://www.ti.com/lit/ml/mpds177g/mpds177g.pdf
footprint D0014A_N (SOIC, 14-Leads, Body 8.75x4mm, Pitch 1.27mm, IPC Medium Density)
footprint D0014A_M (SOIC, 14-Leads, Body 8.75x4mm, Pitch 1.27mm, IPC Low Density)
footprint D0014A_L (SOIC, 14-Leads, Body 8.75x4mm, Pitch 1.27mm, IPC High Density)
part A pins: 1 ~{Q} (out), 3 A1 (in), 4 A2 (in), 5 B (in), 6 Q (out), 7 GND (power), 9 RINT, 10 CEXT, 11 REXT/CEXT, 14 VCC (power)
part B pins: 2 NC, 8 NC, 12 NC, 13 NC

## SN74121DR
designator U?
Monostable multivibrator with Schmitt-trigger inputs, D0014A, LARGE T&R; Generic Part Number: SN74121; Manufacturer: Texas Instruments; PartNumber: SN74121DR; VCC(Min)(V): 4.75; VCC(Max)(V): 5.25; Output Type: TTL; ICC @ Nom Voltage(Max)(mA): 40; Bits(#): 1; F @ Nom Voltage(Max)(Mhz): 75; Rating: Catalog; Voltage(Nom)(V): 5; Schmitt Trigger: Yes; Output Drive (IOL/IOH)(Max)(mA): 16/-0.4; tpd @ Nom Voltage(Max)(ns): 80; DatasheetVersion: SDLS042A; PackageReference: D0014A; Supplier 1: Mouser; Supplier Part Number 1: 595-SN74121DR; Supplier 2: Digi-Key; Supplier Part Number 2: SN74121DR-ND; Input Type: TTL; Operating Temperature Range(C): 0 to 70; Technology Family: TTL; Code_JEDEC: MS-012; ComponentLink1Description: Manufacturer URL; ComponentLink1URL: http://www.ti.com/; ComponentLink2Description: Datasheet; ComponentLink2URL: http://www.ti.com/lit/ds/symlink/sn74121.pdf; ComponentLink3Description: Package Specification; ComponentLink3URL: http://www.ti.com/lit/ml/mpds177g/mpds177g.pdf
footprint D0014A_N (SOIC, 14-Leads, Body 8.75x4mm, Pitch 1.27mm, IPC Medium Density)
footprint D0014A_M (SOIC, 14-Leads, Body 8.75x4mm, Pitch 1.27mm, IPC Low Density)
footprint D0014A_L (SOIC, 14-Leads, Body 8.75x4mm, Pitch 1.27mm, IPC High Density)
part A pins: 1 ~{Q} (out), 3 A1 (in), 4 A2 (in), 5 B (in), 6 Q (out), 7 GND (power), 9 RINT, 10 CEXT, 11 REXT/CEXT, 14 VCC (power)
part B pins: 2 NC, 8 NC, 12 NC, 13 NC

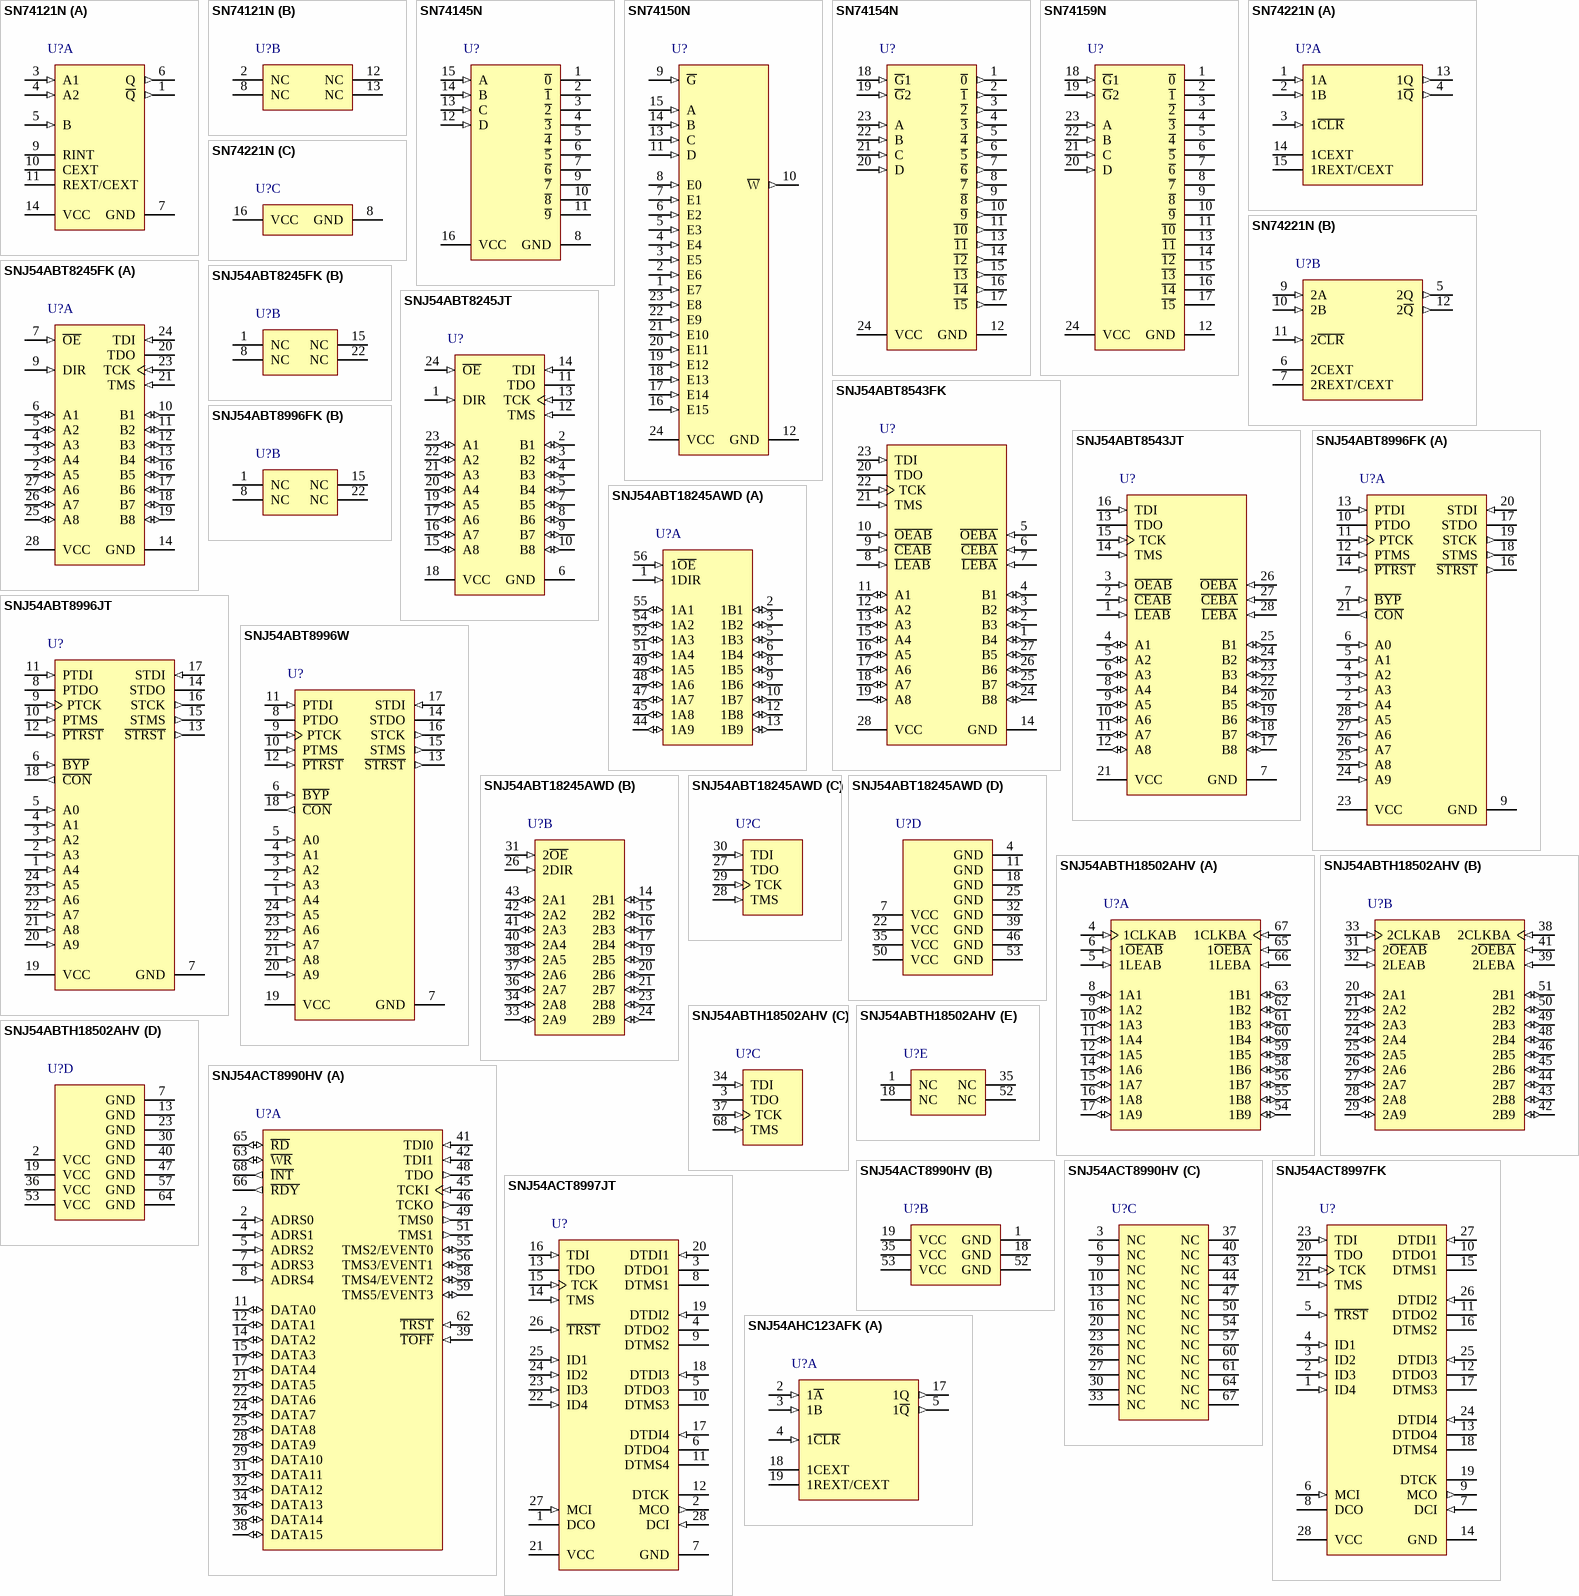
[diagram p86: symbols SN74121N to SNJ54AHC123AFK]

## SN74121N
designator U?
Monostable multivibrator with Schmitt-trigger inputs, N0014A, TUBE; Generic Part Number: SN74121; Manufacturer: Texas Instruments; PartNumber: SN74121N; VCC(Min)(V): 4.75; VCC(Max)(V): 5.25; Output Type: TTL; ICC @ Nom Voltage(Max)(mA): 40; Bits(#): 1; F @ Nom Voltage(Max)(Mhz): 75; Rating: Catalog; Voltage(Nom)(V): 5; Schmitt Trigger: Yes; Output Drive (IOL/IOH)(Max)(mA): 16/-0.4; tpd @ Nom Voltage(Max)(ns): 80; DatasheetVersion: SDLS042A; PackageReference: N0014A; Supplier 1: Mouser; Supplier Part Number 1: 595-SN74121N; Supplier 2: Digi-Key; Supplier Part Number 2: 296-26367-5-ND; Input Type: TTL; Operating Temperature Range(C): 0 to 70; Technology Family: TTL; Code_JEDEC: MS-001; ComponentLink1Description: Manufacturer URL; ComponentLink1URL: http://www.ti.com/; ComponentLink2Description: Datasheet; ComponentLink2URL: http://www.ti.com/lit/ds/symlink/sn74121.pdf; ComponentLink3Description: Package Specification; ComponentLink3URL: http://www.ti.com/lit/ml/mpdi002c/mpdi002c.pdf
footprint N0014A (DIP, 14-Leads, Body 19.7x6.6mm, Pitch 2.54mm)
part A pins: 1 ~{Q} (out), 3 A1 (in), 4 A2 (in), 5 B (in), 6 Q (out), 7 GND (power), 9 RINT, 10 CEXT, 11 REXT/CEXT, 14 VCC (power)
part B pins: 2 NC, 8 NC, 12 NC, 13 NC

## SN74145N
designator U?
BCD-To-Decimal Decoders/Drivers, N0016A, TUBE; Generic Part Number: SN74145; Manufacturer: Texas Instruments; PartNumber: SN74145N; VCC(Min)(V): 4.75; VCC(Max)(V): 5.25; Output Type: TTL; Function: Decoder/Demultiplexer; ICC @ Nom Voltage(Max)(mA): 70; Bits(#): 10; F @ Nom Voltage(Max)(Mhz): 75; Configuration: 4：10; Channels(#): 1; Rating: Catalog; Voltage(Nom)(V): 5; Schmitt Trigger: No; Output Drive (IOL/IOH)(Max)(mA): 80/-20; tpd @ Nom Voltage(Max)(ns): 50; DatasheetVersion: SDLS051; PackageReference: N0016A; Supplier 1: Mouser; Supplier Part Number 1: 595-SN74145N; Supplier 2: Digi-Key; Supplier Part Number 2: 296-33602-5-ND; Input Type: TTL; Operating Temperature Range(C): 0 to 70; Type: Standard; Technology Family: TTL; Code_JEDEC: MS-001; ComponentLink1Description: Manufacturer URL; ComponentLink1URL: http://www.ti.com/; ComponentLink2Description: Datasheet; ComponentLink2URL: http://www.ti.com/lit/ds/symlink/sn74145.pdf; ComponentLink3Description: Package Specification; ComponentLink3URL: http://www.ti.com/lit/ml/mpdi002c/mpdi002c.pdf
footprint N0016A (DIP, 16-Leads, Body 19.7x6.6mm, Pitch 2.54mm)
pins: 1 ~{0} (oc), 2 ~{1} (oc), 3 ~{2} (oc), 4 ~{3} (oc), 5 ~{4} (oc), 6 ~{5} (oc), 7 ~{6} (oc), 8 GND (power), 9 ~{7} (oc), 10 ~{8} (oc), 11 ~{9} (oc), 12 D (in), 13 C (in), 14 B (in), 15 A (in), 16 VCC (power)

## SN74150N
designator U?
16-line to 1-line data selector / multiplexer, N0024A, TUBE; Generic Part Number: SN74150; Manufacturer: Texas Instruments; PartNumber: SN74150N; DatasheetVersion: SDLS054; PackageReference: N0024A; Supplier 1: Mouser; Supplier Part Number 1: 595-SN74150N; Supplier 2: Digi-Key; Supplier Part Number 2: 296-26368-5-ND; Code_JEDEC: MS-011; ComponentLink1Description: Manufacturer URL; ComponentLink1URL: http://www.ti.com/; ComponentLink2Description: Datasheet; ComponentLink2URL: http://www.ti.com/lit/ds/symlink/sn74150.pdf; ComponentLink3Description: Package Specification; ComponentLink3URL: http://www.ti.com/lit/ml/mpdi008/mpdi008.pdf
footprint N0024A (DIP, 24-Leads, Body 32.25x14.2mm, Pitch 2.54mm)
pins: 1 E7 (in), 2 E6 (in), 3 E5 (in), 4 E4 (in), 5 E3 (in), 6 E2 (in), 7 E1 (in), 8 E0 (in), 9 ~{G} (in), 10 ~{W} (out), 11 D (in), 12 GND (power), 13 C (in), 14 B (in), 15 A (in), 16 E15 (in), 17 E14 (in), 18 E13 (in), 19 E12 (in), 20 E11 (in), 21 E10 (in), 22 E9 (in), 23 E8 (in), 24 VCC (power)

## SN74154N
designator U?
4-Line To 16-Line Decoders/Demultiplexers, N0024A, TUBE; Generic Part Number: SN74154; Manufacturer: Texas Instruments; PartNumber: SN74154N; DatasheetVersion: SDLS056; PackageReference: N0024A; Supplier 1: Mouser; Supplier Part Number 1: 595-SN74154N; Supplier 2: Digi-Key; Supplier Part Number 2: 296-8757-5-ND; Code_JEDEC: MS-011; ComponentLink1Description: Manufacturer URL; ComponentLink1URL: http://www.ti.com/; ComponentLink2Description: Datasheet; ComponentLink2URL: http://www.ti.com/lit/ds/symlink/sn74154.pdf; ComponentLink3Description: Package Specification; ComponentLink3URL: http://www.ti.com/lit/ml/mpdi008/mpdi008.pdf
footprint N0024A (DIP, 24-Leads, Body 32.25x14.2mm, Pitch 2.54mm)
pins: 1 ~{0} (out), 2 ~{1} (out), 3 ~{2} (out), 4 ~{3} (out), 5 ~{4} (out), 6 ~{5} (out), 7 ~{6} (out), 8 ~{7} (out), 9 ~{8} (out), 10 ~{9} (out), 11 ~{10} (out), 12 GND (power), 13 ~{11} (out), 14 ~{12} (out), 15 ~{13} (out), 16 ~{14} (out), 17 ~{15} (out), 18 ~{G}1 (in), 19 ~{G}2 (in), 20 D (in), 21 C (in), 22 B (in), 23 A (in), 24 VCC (power)

## SN74159N
designator U?
4-Line To 16-Line Decoders/Demultiplexers With Open Collector Outputs, N0024A, TUBE; Generic Part Number: SN74159; Manufacturer: Texas Instruments; PartNumber: SN74159N; DatasheetVersion: SDLS059; PackageReference: N0024A; Supplier 1: Mouser; Supplier Part Number 1: 595-SN74159N; Supplier 2: Digi-Key; Supplier Part Number 2: 296-33605-5-ND; Code_JEDEC: MS-011; ComponentLink1Description: Manufacturer URL; ComponentLink1URL: http://www.ti.com/; ComponentLink2Description: Datasheet; ComponentLink2URL: http://www.ti.com/lit/ds/symlink/sn74159.pdf; ComponentLink3Description: Package Specification; ComponentLink3URL: http://www.ti.com/lit/ml/mpdi008/mpdi008.pdf
footprint N0024A (DIP, 24-Leads, Body 32.25x14.2mm, Pitch 2.54mm)
pins: 1 ~{0} (oc), 2 ~{1} (oc), 3 ~{2} (oc), 4 ~{3} (oc), 5 ~{4} (oc), 6 ~{5} (oc), 7 ~{6} (oc), 8 ~{7} (oc), 9 ~{8} (oc), 10 ~{9} (oc), 11 ~{10} (oc), 12 GND (power), 13 ~{11} (oc), 14 ~{12} (oc), 15 ~{13} (oc), 16 ~{14} (oc), 17 ~{15} (oc), 18 ~{G}1 (in), 19 ~{G}2 (in), 20 D (in), 21 C (in), 22 B (in), 23 A (in), 24 VCC (power)

## SN74221N
designator U?
Dual monostable multivibrators with Schmitt-trigger inputs, N0016A, TUBE; Generic Part Number: SN74221; Manufacturer: Texas Instruments; PartNumber: SN74221N; VCC(Min)(V): 4.75; VCC(Max)(V): 5.25; Output Type: TTL; ICC @ Nom Voltage(Max)(mA): 80; Bits(#): 2; F @ Nom Voltage(Max)(Mhz): 75; Rating: Catalog; Voltage(Nom)(V): 5; Schmitt Trigger: Yes; Output Drive (IOL/IOH)(Max)(mA): 16/-0.8; DatasheetVersion: SDLS213B; PackageReference: N0016A; Supplier 1: Mouser; Supplier Part Number 1: 595-SN74221N; Supplier 2: Digi-Key; Supplier Part Number 2: 296-33608-5-ND; Input Type: TTL; Operating Temperature Range(C): 0 to 70; Technology Family: TTL; tpd @ Nom Voltage(Max)(ns): 80; Code_JEDEC: MS-001; ComponentLink1Description: Manufacturer URL; ComponentLink1URL: http://www.ti.com/; ComponentLink2Description: Datasheet; ComponentLink2URL: http://www.ti.com/lit/ds/symlink/sn74221.pdf; ComponentLink3Description: Package Specification; ComponentLink3URL: http://www.ti.com/lit/ml/mpdi002c/mpdi002c.pdf
footprint N0016A (DIP, 16-Leads, Body 19.7x6.6mm, Pitch 2.54mm)
part A pins: 1 1A (in), 2 1B (in), 3 1~{CLR} (in), 4 1~{Q} (out), 13 1Q (out), 14 1CEXT, 15 1REXT/CEXT
part B pins: 5 2Q (out), 6 2CEXT, 7 2REXT/CEXT, 9 2A (in), 10 2B (in), 11 2~{CLR} (in), 12 2~{Q} (out)
part C pins: 8 GND (power), 16 VCC (power)

## SNJ54ABT8245FK
designator U?
Scan Test Devices With Octal Bus Transceivers, FK0028A, TUBE; Generic Part Number: SN54ABT8245; Manufacturer: Texas Instruments; PartNumber: SNJ54ABT8245FK; VCC(Min)(V): 4.5; VCC(Max)(V): 5.5; Output Type: TTL; ICC @ Nom Voltage(Max)(mA): 38; Bits(#): 8; Rating: Military; Technology Family: ABT; Output Drive (IOL/IOH)(Max)(mA): 64/-32; Output Logic: True; tpd @ Nom Voltage(Max)(ns): 5.8; DatasheetVersion: SCBS124D; PackageReference: FK0028A; Input Type: TTL; Operating Temperature Range(C): -55 to 125; Code_JEDEC: MS-004; ComponentLink1Description: Manufacturer URL; ComponentLink1URL: http://www.ti.com/; ComponentLink2Description: Datasheet; ComponentLink2URL: http://www.ti.com/lit/ds/symlink/sn54abt8245.pdf; ComponentLink3Description: Package Specification; ComponentLink3URL: http://www.ti.com/lit/ml/mlcc006d/mlcc006d.pdf
footprint FD0028A_N (LCC, 28-Leads, Body 11.43x11.43mm, Pitch 1.27mm, IPC Medium Density)
footprint FD0028A_M (LCC, 28-Leads, Body 11.43x11.43mm, Pitch 1.27mm, IPC Low Density)
footprint FD0028A_L (LCC, 28-Leads, Body 11.43x11.43mm, Pitch 1.27mm, IPC High Density)
part A pins: 2 A5 (io) "Normal-function A-bus I/O ports. See function table for normal-mode logic.", 3 A4 (io) "Normal-function A-bus I/O ports. See function table for normal-mode logic.", 4 A3 (io) "Normal-function A-bus I/O ports. See function table for normal-mode logic.", 5 A2 (io) "Normal-function A-bus I/O ports. See function table for normal-mode logic.", 6 A1 (io) "Normal-function A-bus I/O ports. See function table for normal-mode logic.", 7 ~{OE} (in) "Normal-function output-enable input. See function table for normal-mode logic.", 9 DIR (in) "Normal-function direction-control input. See function table for normal-mode logic.", 10 B1 (io) "Normal-function B-bus I/O ports. See function table for normal-mode logic.", 11 B2 (io) "Normal-function B-bus I/O ports. See function table for normal-mode logic.", 12 B3 (io) "Normal-function B-bus I/O ports. See function table for normal-mode logic.", 13 B4 (io) "Normal-function B-bus I/O ports. See function table for normal-mode logic.", 14 GND (power) "Ground", 16 B5 (io) "Normal-function B-bus I/O ports. See function table for normal-mode logic.", 17 B6 (io) "Normal-function B-bus I/O ports. See function table for normal-mode logic.", 18 B7 (io) "Normal-function B-bus I/O ports. See function table for normal-mode logic.", 19 B8 (io) "Normal-function B-bus I/O ports. See function table for normal-mode logic.", 20 TDO (hiz) "Test data output. One of four terminals required by IEEE Standard 1149.1-1990. TDO is the serial output for shifting data through the instruction register or selected data register.", 21 TMS (in) "Test mode select. One of four terminals required by IEEE Standard 1149.1-1990. TMS input directs the device through its TAP controller states. An internal pullup forces TMS to a high level if left unconnected.", 23 TCK (in) "Test clock. One of four terminals required by IEEE Standard 1149.1-1990. Test operations of the device are synchronous to TCK. Data is captured on the rising edge of TCK and outputs change on the falling edge of TCK.", 24 TDI (in) "Test data input. One of four terminals required by IEEE Standard 1149.1-1990. TDI is the serial input for shifting data through the instruction register or selected data register. An internal pullup forces TDI to a high (See Datasheet)", 25 A8 (io) "Normal-function A-bus I/O ports. See function table for normal-mode logic.", 26 A7 (io) "Normal-function A-bus I/O ports. See function table for normal-mode logic.", 27 A6 (io) "Normal-function A-bus I/O ports. See function table for normal-mode logic.", 28 VCC (power) "Supply voltage"
part B pins: 1 NC "No internal connection", 8 NC "No internal connection", 15 NC "No internal connection", 22 NC "No internal connection"

## SNJ54ABT8245JT
designator U?
Scan Test Devices With Octal Bus Transceivers, JT0024A, TUBE; Generic Part Number: SN54ABT8245; Manufacturer: Texas Instruments; PartNumber: SNJ54ABT8245JT; VCC(Min)(V): 4.5; VCC(Max)(V): 5.5; Output Type: TTL; ICC @ Nom Voltage(Max)(mA): 38; Bits(#): 8; Rating: Military; Technology Family: ABT; Output Drive (IOL/IOH)(Max)(mA): 64/-32; Output Logic: True; tpd @ Nom Voltage(Max)(ns): 5.8; DatasheetVersion: SCBS124D; PackageReference: JT0024A; Input Type: TTL; Operating Temperature Range(C): -55 to 125; ComponentLink1Description: Manufacturer URL; ComponentLink1URL: http://www.ti.com/; ComponentLink2Description: Datasheet; ComponentLink2URL: http://www.ti.com/lit/ds/symlink/sn54abt8245.pdf
footprint JT0024A (DIP, 24-Leads, Body 7.2x32.5mm, Pitch 2.54mm)
pins: 1 DIR (in) "Normal-function direction-control input. See function table for normal-mode logic.", 2 B1 (io) "Normal-function B-bus I/O ports. See function table for normal-mode logic.", 3 B2 (io) "Normal-function B-bus I/O ports. See function table for normal-mode logic.", 4 B3 (io) "Normal-function B-bus I/O ports. See function table for normal-mode logic.", 5 B4 (io) "Normal-function B-bus I/O ports. See function table for normal-mode logic.", 6 GND (power) "Ground", 7 B5 (io) "Normal-function B-bus I/O ports. See function table for normal-mode logic.", 8 B6 (io) "Normal-function B-bus I/O ports. See function table for normal-mode logic.", 9 B7 (io) "Normal-function B-bus I/O ports. See function table for normal-mode logic.", 10 B8 (io) "Normal-function B-bus I/O ports. See function table for normal-mode logic.", 11 TDO (hiz) "Test data output. One of four terminals required by IEEE Standard 1149.1-1990. TDO is the serial output for shifting data through the instruction register or selected data register.", 12 TMS (in) "Test mode select. One of four terminals required by IEEE Standard 1149.1-1990. TMS input directs the device through its TAP controller states. An internal pullup forces TMS to a high level if left unconnected.", 13 TCK (in) "Test clock. One of four terminals required by IEEE Standard 1149.1-1990. Test operations of the device are synchronous to TCK. Data is captured on the rising edge of TCK and outputs change on the falling edge of TCK.", 14 TDI (in) "Test data input. One of four terminals required by IEEE Standard 1149.1-1990. TDI is the serial input for shifting data through the instruction register or selected data register. An internal pullup forces TDI to a high (See Datasheet)", 15 A8 (io) "Normal-function A-bus I/O ports. See function table for normal-mode logic.", 16 A7 (io) "Normal-function A-bus I/O ports. See function table for normal-mode logic.", 17 A6 (io) "Normal-function A-bus I/O ports. See function table for normal-mode logic.", 18 VCC (power) "Supply voltage", 19 A5 (io) "Normal-function A-bus I/O ports. See function table for normal-mode logic.", 20 A4 (io) "Normal-function A-bus I/O ports. See function table for normal-mode logic.", 21 A3 (io) "Normal-function A-bus I/O ports. See function table for normal-mode logic.", 22 A2 (io) "Normal-function A-bus I/O ports. See function table for normal-mode logic.", 23 A1 (io) "Normal-function A-bus I/O ports. See function table for normal-mode logic.", 24 ~{OE} (in) "Normal-function output-enable input. See function table for normal-mode logic."